# Altium schematic symbol library Cypress USB Controllers.SchLib: 169 symbols (part 10 of 15)
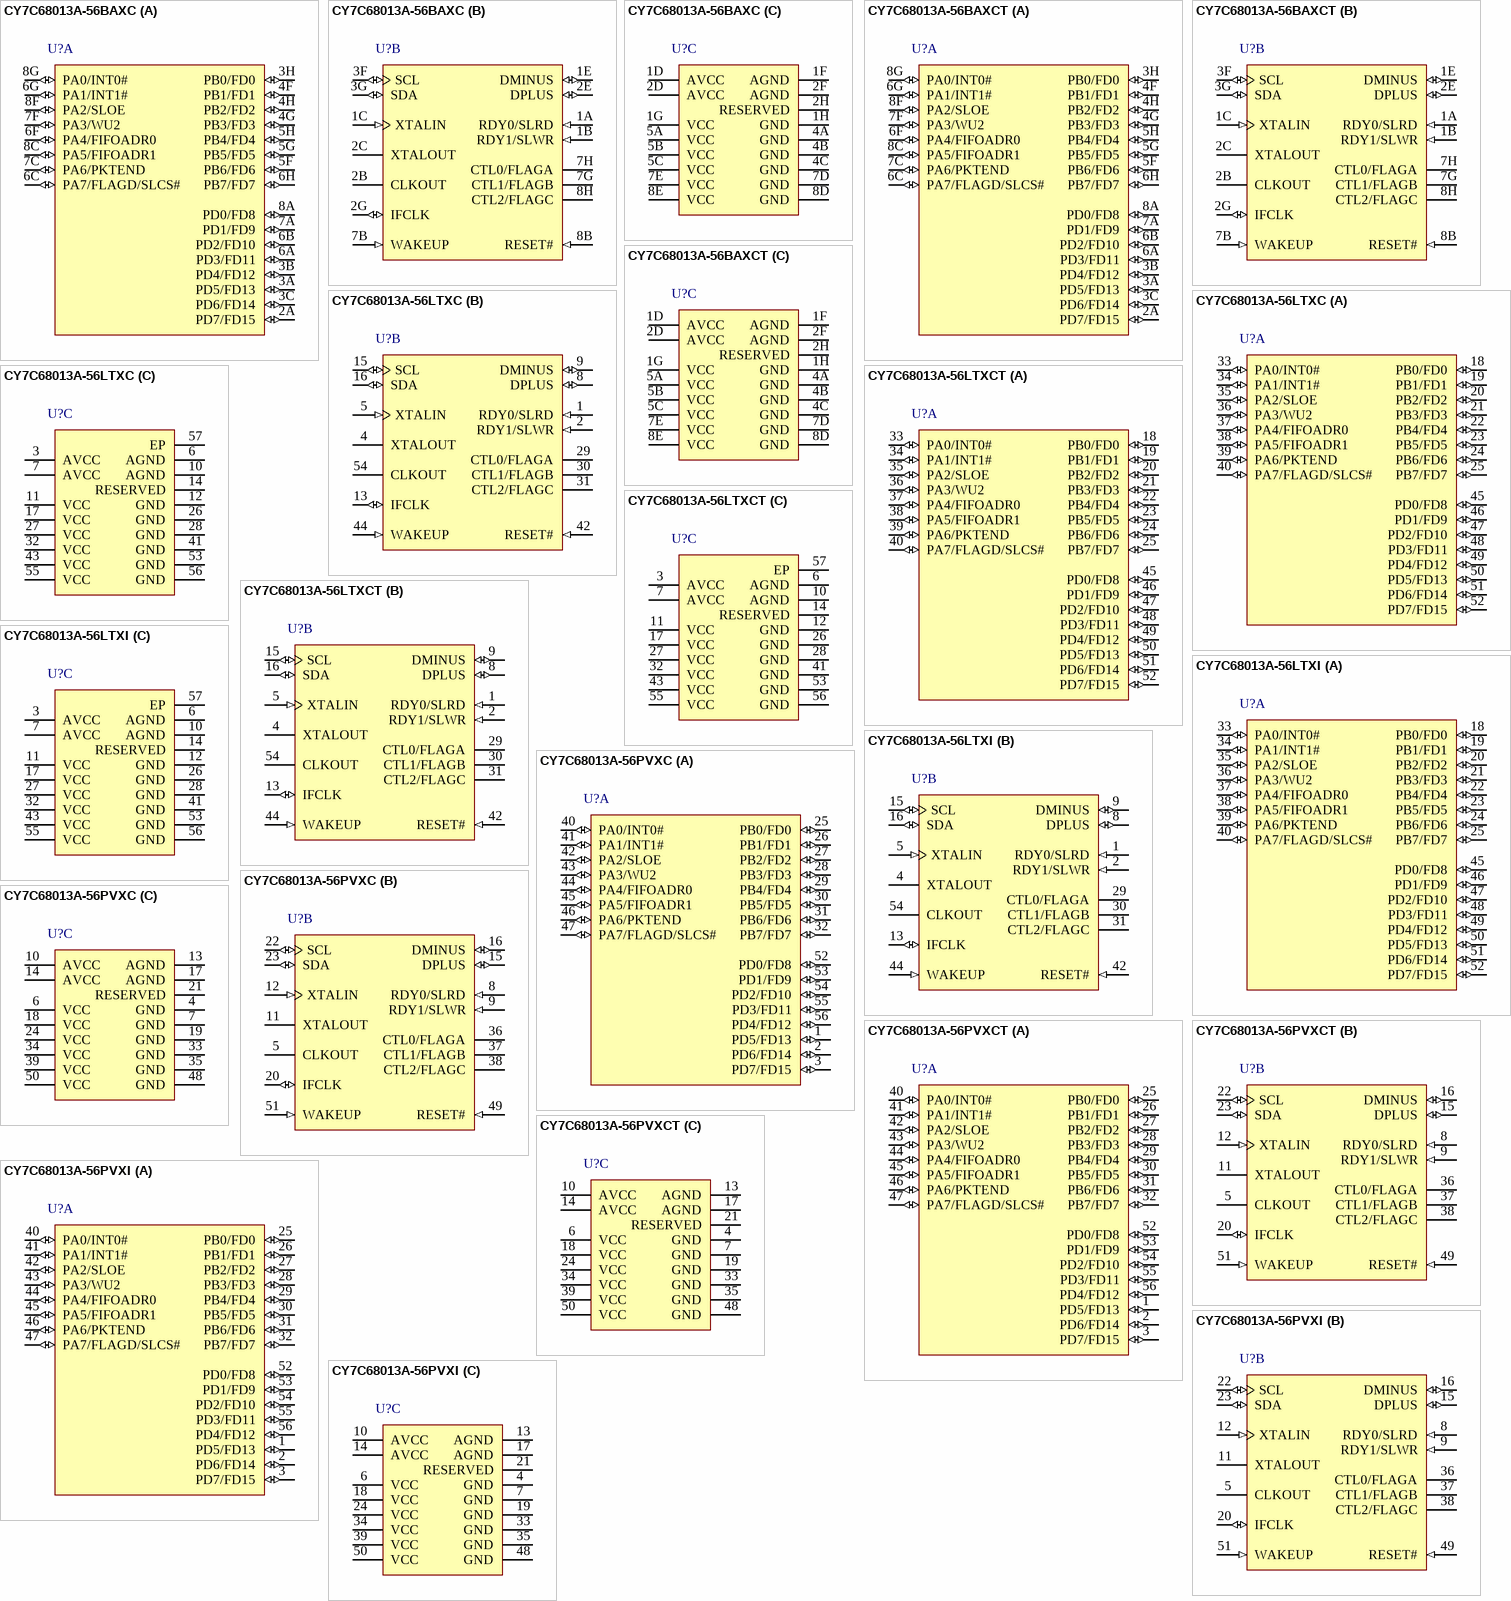
[diagram p31: symbols CY7C68013A-56BAXC to CY7C68013A-56PVXI]

## CY7C68013A-56PVXCT
designator U?
EZ-USB(R) FX2LP(TM) USB Microcontroller High-Speed USB Peripheral Controller, 16 KB, 24 I/Os, 3 to 3.6 V, 0 to 70 degC, 56-Pin SSOP (PVX56), Tape and Reel; Manufacturer: Cypress; PartNumber: CY7C68013A-56PVXCT; Max. Operating Voltage (V): 3.6; Memory Architecture: RAM; Memory Size (KB): 16; Min. Operating Voltage (V): 3; No. of I/Os: 24; Populated: Yes; DatasheetVersion: Rev. *W; PackageVersion: Rev. *F, 08/2012; PackageReference: PVX56; PackageDescription: 56-Pin Shrunk Small Outline Package, Body 7.506 x 18.415 mm, Pitch 0.635 mm; Supplier 1: Digi-Key; Supplier Part Number 1: CY7C68013A56PVXCT-ND; CPU Core: Enhanced 8051; Max. Operating Temp. (degreesC): 70; Min. Operating Temp. (degreesC): 0; Packing: Tape and Reel; RoHS: Pb-Free; Mounting Technology: Surface Mount; ComponentLink1Description: Manufacturer URL; ComponentLink1URL: http://www.cypress.com/; ComponentLink2Description: Datasheet; ComponentLink2URL: http://www.cypress.com/?docID=45142; ComponentLink3Description: Package Specification; ComponentLink3URL: http://www.cypress.com/?docID=39259
footprint CYP-PVX56_N (SOP, 56-Leads, Body 18.415x7.506mm, Pitch 0.635mm , IPC Medium Density)
footprint CYP-PVX56_L (SOP, 56-Leads, Body 18.415x7.506mm, Pitch 0.635mm, IPC High Density)
footprint CYP-PVX56_M (SOP, 56-Leads, Body 18.415x7.506mm, Pitch 0.635mm, IPC Low Density)
part A pins: 1 PD5/FD13 (io), 2 PD6/FD14 (io), 3 PD7/FD15 (io), 25 PB0/FD0 (io), 26 PB1/FD1 (io), 27 PB2/FD2 (io), 28 PB3/FD3 (io), 29 PB4/FD4 (io), 30 PB5/FD5 (io), 31 PB6/FD6 (io), 32 PB7/FD7 (io), 40 PA0/INT0# (io), 41 PA1/INT1# (io), 42 PA2/SLOE (io), 43 PA3/WU2 (io), 44 PA4/FIFOADR0 (io), 45 PA5/FIFOADR1 (io), 46 PA6/PKTEND (io), 47 PA7/FLAGD/SLCS# (io), 52 PD0/FD8 (io), 53 PD1/FD9 (io), 54 PD2/FD10 (io), 55 PD3/FD11 (io), 56 PD4/FD12 (io)
part B pins: 5 CLKOUT (hiz) "12-, 24- or 48 MHz clock, phase locked to the 24 MHz input clock. The 8051 defaults to 12 MHz operation. The 8051 may three-state this output by setting CPUCS.1 = 1.", 8 RDY0/SLRD (in), 9 RDY1/SLWR (in), 11 XTALOUT "Crystal Output. Connect this signal to a 24 MHz parallel-resonant, fundamental mode crystal and load capacitor to GND.If an external clock is used to drive XTALIN, leave this pin open.", 12 XTALIN (in) "Crystal Input. Connect this signal to a 24 MHz parallel-resonant, fundamental mode crystal and load capacitor to GND. It is also correct to drive XTALIN with an external 24-MHz square wave derived from another clock source. (See Datasheet)", 15 DPLUS (io) "USB D+ Signal. Connect to the USB D+ signal", 16 DMINUS (io) "USB D- Signal. Connect to the USB D- signal.", 20 IFCLK (io) "Interface Clock, used for synchronously clocking data into or out of the slave FIFOs. IFCLK also serves as a timing reference for all slave FIFO control signals and GPIF. When internal clocking is used (IFCONFIG.7 = 1) the (See Datasheet)", 22 SCL (io) "Clock for the I2C interface. Connect to VCC with a 2.2K resistor, even if no I2C peripheral is attached.", 23 SDA (io) "Data for I2C compatible interface. Connect to VCC with a 2.2K resistor, even if no I2C compatible peripheral is attached.", 36 CTL0/FLAGA (hiz), 37 CTL1/FLAGB (hiz), 38 CTL2/FLAGC (hiz), 49 RESET# (in) "Active LOW Reset. Resets the entire chip. See section 2.9 ¡±Reset and Wakeup¡± on page 8 for more details.", 51 WAKEUP (in) "USB Wakeup. If the 8051 is in suspend, asserting this pin starts up the oscillator and interrupts the 8051 to enable it to exit the suspend mode. Holding WAKEUP asserted inhibits the EZ-USBa chip from suspending. This pin(See Datasheet)"
part C pins: 4 GND (power) "Ground.", 6 VCC (power) "VCC. Connect to 3.3 V power source.", 7 GND (power) "Ground.", 10 AVCC (power) "Analog VCC. Connect this pin to 3.3V power source. This signal provides power to the analog section of the chip.", 13 AGND (power) "Analog Ground. Connect to ground with as short a path as possible.", 14 AVCC (power) "Analog VCC. Connect this pin to 3.3V power source. This signal provides power to the analog section of the chip.", 17 AGND (power) "Analog Ground. Connect to ground with as short a path as possible.", 18 VCC (power) "VCC. Connect to 3.3 V power source.", 19 GND (power) "Ground.", 21 RESERVED (power) "Reserved. Connect to ground.", 24 VCC (power) "VCC. Connect to 3.3 V power source.", 33 GND (power) "Ground.", 34 VCC (power) "VCC. Connect to 3.3 V power source.", 35 GND (power) "Ground.", 39 VCC (power) "VCC. Connect to 3.3 V power source.", 48 GND (power) "Ground.", 50 VCC (power) "VCC. Connect to 3.3 V power source."

## CY7C68013A-56PVXI
designator U?
EZ-USB(R) FX2LP(TM) USB Microcontroller High-Speed USB Peripheral Controller, 16 KB, 24 I/Os, 3 to 3.6 V, -40 to 85 degC, 56-Pin SSOP (PVX56), Tube; Manufacturer: Cypress; PartNumber: CY7C68013A-56PVXI; Max. Operating Voltage (V): 3.6; Memory Architecture: RAM; Memory Size (KB): 16; Min. Operating Voltage (V): 3; No. of I/Os: 24; Populated: Yes; DatasheetVersion: Rev. *W; PackageVersion: Rev. *F, 08/2012; PackageReference: PVX56; PackageDescription: 56-Pin Shrunk Small Outline Package, Body 7.506 x 18.415 mm, Pitch 0.635 mm; Supplier 1: Digi-Key; Supplier Part Number 1: 428-1944-5-ND; CPU Core: Enhanced 8051; Max. Operating Temp. (degreesC): 85; Min. Operating Temp. (degreesC): -40; Packing: Tube; RoHS: Pb-Free; Mounting Technology: Surface Mount; ComponentLink1Description: Manufacturer URL; ComponentLink1URL: http://www.cypress.com/; ComponentLink2Description: Datasheet; ComponentLink2URL: http://www.cypress.com/?docID=45142; ComponentLink3Description: Package Specification; ComponentLink3URL: http://www.cypress.com/?docID=39259
footprint CYP-PVX56_N (SOP, 56-Leads, Body 18.415x7.506mm, Pitch 0.635mm , IPC Medium Density)
footprint CYP-PVX56_L (SOP, 56-Leads, Body 18.415x7.506mm, Pitch 0.635mm, IPC High Density)
footprint CYP-PVX56_M (SOP, 56-Leads, Body 18.415x7.506mm, Pitch 0.635mm, IPC Low Density)
part A pins: 1 PD5/FD13 (io), 2 PD6/FD14 (io), 3 PD7/FD15 (io), 25 PB0/FD0 (io), 26 PB1/FD1 (io), 27 PB2/FD2 (io), 28 PB3/FD3 (io), 29 PB4/FD4 (io), 30 PB5/FD5 (io), 31 PB6/FD6 (io), 32 PB7/FD7 (io), 40 PA0/INT0# (io), 41 PA1/INT1# (io), 42 PA2/SLOE (io), 43 PA3/WU2 (io), 44 PA4/FIFOADR0 (io), 45 PA5/FIFOADR1 (io), 46 PA6/PKTEND (io), 47 PA7/FLAGD/SLCS# (io), 52 PD0/FD8 (io), 53 PD1/FD9 (io), 54 PD2/FD10 (io), 55 PD3/FD11 (io), 56 PD4/FD12 (io)
part B pins: 5 CLKOUT (hiz) "12-, 24- or 48 MHz clock, phase locked to the 24 MHz input clock. The 8051 defaults to 12 MHz operation. The 8051 may three-state this output by setting CPUCS.1 = 1.", 8 RDY0/SLRD (in), 9 RDY1/SLWR (in), 11 XTALOUT "Crystal Output. Connect this signal to a 24 MHz parallel-resonant, fundamental mode crystal and load capacitor to GND.If an external clock is used to drive XTALIN, leave this pin open.", 12 XTALIN (in) "Crystal Input. Connect this signal to a 24 MHz parallel-resonant, fundamental mode crystal and load capacitor to GND. It is also correct to drive XTALIN with an external 24-MHz square wave derived from another clock source. (See Datasheet)", 15 DPLUS (io) "USB D+ Signal. Connect to the USB D+ signal", 16 DMINUS (io) "USB D- Signal. Connect to the USB D- signal.", 20 IFCLK (io) "Interface Clock, used for synchronously clocking data into or out of the slave FIFOs. IFCLK also serves as a timing reference for all slave FIFO control signals and GPIF. When internal clocking is used (IFCONFIG.7 = 1) the (See Datasheet)", 22 SCL (io) "Clock for the I2C interface. Connect to VCC with a 2.2K resistor, even if no I2C peripheral is attached.", 23 SDA (io) "Data for I2C compatible interface. Connect to VCC with a 2.2K resistor, even if no I2C compatible peripheral is attached.", 36 CTL0/FLAGA (hiz), 37 CTL1/FLAGB (hiz), 38 CTL2/FLAGC (hiz), 49 RESET# (in) "Active LOW Reset. Resets the entire chip. See section 2.9 ¡±Reset and Wakeup¡± on page 8 for more details.", 51 WAKEUP (in) "USB Wakeup. If the 8051 is in suspend, asserting this pin starts up the oscillator and interrupts the 8051 to enable it to exit the suspend mode. Holding WAKEUP asserted inhibits the EZ-USBa chip from suspending. This pin(See Datasheet)"
part C pins: 4 GND (power) "Ground.", 6 VCC (power) "VCC. Connect to 3.3 V power source.", 7 GND (power) "Ground.", 10 AVCC (power) "Analog VCC. Connect this pin to 3.3V power source. This signal provides power to the analog section of the chip.", 13 AGND (power) "Analog Ground. Connect to ground with as short a path as possible.", 14 AVCC (power) "Analog VCC. Connect this pin to 3.3V power source. This signal provides power to the analog section of the chip.", 17 AGND (power) "Analog Ground. Connect to ground with as short a path as possible.", 18 VCC (power) "VCC. Connect to 3.3 V power source.", 19 GND (power) "Ground.", 21 RESERVED (power) "Reserved. Connect to ground.", 24 VCC (power) "VCC. Connect to 3.3 V power source.", 33 GND (power) "Ground.", 34 VCC (power) "VCC. Connect to 3.3 V power source.", 35 GND (power) "Ground.", 39 VCC (power) "VCC. Connect to 3.3 V power source.", 48 GND (power) "Ground.", 50 VCC (power) "VCC. Connect to 3.3 V power source."

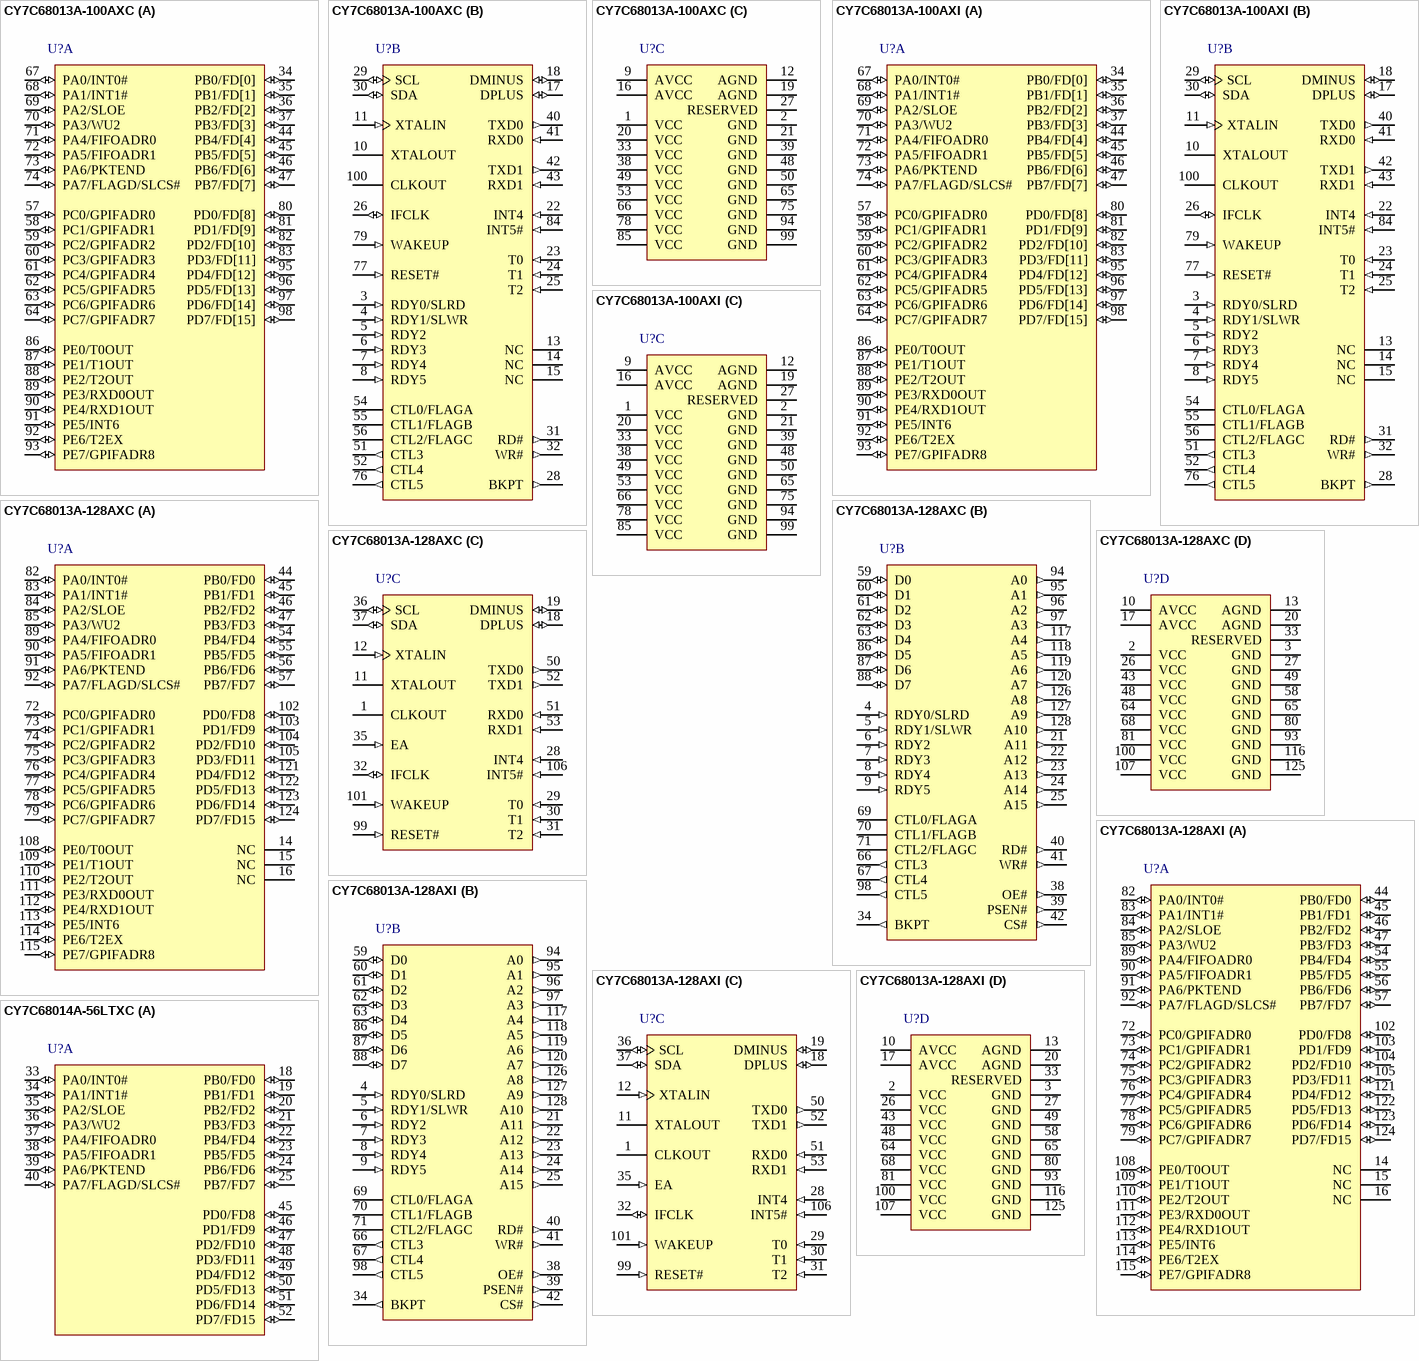
[diagram p10: symbols CY7C68013A-100AXC to CY7C68014A-56LTXC]

## CY7C68013A-100AXC
designator U?
EZ-USB(R) FX2LP(TM) USB Microcontroller High-Speed USB Peripheral Controller, 16 KB, 40 I/Os, 3 to 3.6 V, 0 to 70 degC, 100-Pin TQFP (AX100RA), Tray; Manufacturer: Cypress; PartNumber: CY7C68013A-100AXC; Max. Operating Voltage (V): 3.6; Memory Architecture: RAM; Memory Size (KB): 16; Min. Operating Voltage (V): 3; No. of I/Os: 40; Populated: Yes; DatasheetVersion: Rev. *W; PackageVersion: Rev. *E; PackageReference: AX100RA; PackageDescription: 100-Pin Thin Quad Flat Pack, Body 14 x 20 mm, Pitch 0.65 mm; Supplier 1: Digi-Key; Supplier Part Number 1: 428-1667-ND; CPU Core: Enhanced 8051; Max. Operating Temp. (degreesC): 70; Min. Operating Temp. (degreesC): 0; Packing: Tray; RoHS: Pb-Free; Mounting Technology: Surface Mount; Code_JEDEC: MS-026; ComponentLink1Description: Manufacturer URL; ComponentLink1URL: http://www.cypress.com/; ComponentLink2Description: Datasheet; ComponentLink2URL: http://www.cypress.com/?docID=45142; ComponentLink3Description: Package Specification; ComponentLink3URL: http://www.cypress.com/?docID=48215
footprint CYP-AX100RA_N (QFP, 100-Leads, Body 20x14mm, Pitch 0.65mm, IPC Medium Density)
footprint CYP-AX100RA_L (QFP, 100-Leads, Body 20x14mm, Pitch 0.65mm, IPC High Density)
footprint CYP-AX100RA_M (QFP, 100-Leads, Body 20x14mm, Pitch 0.65mm, IPC Low Density)
part A pins: 34 PB0/FD[0] (io), 35 PB1/FD[1] (io), 36 PB2/FD[2] (io), 37 PB3/FD[3] (io), 44 PB4/FD[4] (io), 45 PB5/FD[5] (io), 46 PB6/FD[6] (io), 47 PB7/FD[7] (io), 57 PC0/GPIFADR0 (io), 58 PC1/GPIFADR1 (io), 59 PC2/GPIFADR2 (io), 60 PC3/GPIFADR3 (io), 61 PC4/GPIFADR4 (io), 62 PC5/GPIFADR5 (io), 63 PC6/GPIFADR6 (io), 64 PC7/GPIFADR7 (io), 67 PA0/INT0# (io), 68 PA1/INT1# (io), 69 PA2/SLOE (io), 70 PA3/WU2 (io), 71 PA4/FIFOADR0 (io), 72 PA5/FIFOADR1 (io), 73 PA6/PKTEND (io), 74 PA7/FLAGD/SLCS# (io), 80 PD0/FD[8] (io), 81 PD1/FD[9] (io), 82 PD2/FD[10] (io), 83 PD3/FD[11] (io), 86 PE0/T0OUT (io), 87 PE1/T1OUT (io), 88 PE2/T2OUT (io), 89 PE3/RXD0OUT (io), 90 PE4/RXD1OUT (io), 91 PE5/INT6 (io), 92 PE6/T2EX (io), 93 PE7/GPIFADR8 (io), 95 PD4/FD[12] (io), 96 PD5/FD[13] (io), 97 PD6/FD[14] (io), 98 PD7/FD[15] (io)
part B pins: 3 RDY0/SLRD (in), 4 RDY1/SLWR (in), 5 RDY2 (in) "RDY2 is a GPIF input signal.", 6 RDY3 (in) "RDY3 is a GPIF input signal.", 7 RDY4 (in) "RDY4 is a GPIF input signal.", 8 RDY5 (in) "RDY5 is a GPIF input signal.", 10 XTALOUT "Crystal Output. Connect this signal to a 24 MHz parallel-resonant, fundamental mode crystal and load capacitor to GND. If an external clock is used to drive XTALIN, leave this pin open.", 11 XTALIN (in) "Crystal Input. Connect this signal to a 24 MHz parallel-resonant, fundamental mode crystal and load capacitor to GND. It is also correct to drive XTALIN with an external 24-MHz square wave derived from another clock source. (See Datasheet)", 13 NC "No Connect. This pin must be left open.", 14 NC "No Connect. This pin must be left open.", 15 NC "No Connect. This pin must be left open.", 17 DPLUS (io) "USB D+ Signal. Connect to the USB D+ signal.", 18 DMINUS (io) "USB D-Signal. Connect to the USB - signal.", 22 INT4 (in) "INT4 is the 8051 INT4 interrupt request input signal. The INT4 pin is edge-sensitive, active HIGH.", 23 T0 (in) "T0 is the active-HIGH T0 signal for 8051 Timer0, which provides the input to Timer0 when C/T0 is 1. When C/T0 is 0, Timer0 does not use this bit.", 24 T1 (in) "T1 is the active-HIGH T1 signal for 8051 Timer1, which provides the input to Timer1 when C/T1 is 1. When C/T1 is 0, Timer1 does not use this bit.", 25 T2 (in) "T2 is the active-HIGH T2 input signal to 8051 Timer2, which provides the input to Timer2 when C/T2 = 1. When C/T2 = 0, Timer2 does not use this pin.", 26 IFCLK (io) "Interface Clock, used for synchronously clocking data into/out of the slave FIFOs. IFCLK also serves as a timing reference for all slave FIFO control signals and GPIF. When internal clocking is used (IFCONFIG.7 = 1) the (See Datasheet)", 28 BKPT (out) "Breakpoint. This pin goes active (HIGH) when the 8051 address bus matches the BPADDRH/L registers and breakpoints are enabled in the BREAKPT register (BPEN = 1). If the BPPULSE bit in the BREAKPT register is HIGH, this (See Datasheet)", 29 SCL (io) "Clock for the I2C interface. Connect to VCC with a 2.2K resistor, even if no I2C peripheral is attached.", 30 SDA (io) "Data for I2C compatible interface. Connect to VCC with a 2.2K resistor, even if no I2C compatible peripheral is attached.", 31 RD# (out) "RD# is the active-LOW read strobe output for external memory.", 32 WR# (out) "WR# is the active-LOW write strobe output for external memory.", 40 TXD0 (out) "TXD0 is the active-HIGH TXD0 output from 8051 UART0, which provides the output clock in sync mode, and the output data in async mode.", 41 RXD0 (in) "RXD0 is the active-HIGH RXD0 input to 8051 UART0, which provides data to the UART in all modes.", 42 TXD1 (out) "TXD1is an active-HIGH output pin from 8051 UART1, which provides the output clock in sync mode, and the output data in async mode.", 43 RXD1 (in) "RXD1is an active-HIGH input signal for 8051 UART1, which provides data to the UART in all modes.", 51 CTL3 (out) "CTL3 is a GPIF control output.", 52 CTL4 (out) "CTL4 is a GPIF control output.", 54 CTL0/FLAGA (hiz), 55 CTL1/FLAGB (hiz), 56 CTL2/FLAGC (hiz), 76 CTL5 (out) "CTL5 is a GPIF control output.", 77 RESET# (in) "Active LOW Reset. Resets the entire chip. See section 2.9 ”Reset and Wakeup?on page 8 for more details.", 79 WAKEUP (in) "USB Wakeup. If the 8051 is in suspend, asserting this pin starts up the oscillator and interrupts the 8051 to enable it to exit the suspend mode. Holding WAKEUP asserted inhibits the EZ-USB? chip from suspending. This pi(See Datasheet)", 84 INT5# (in) "INT5# is the 8051 INT5 interrupt request input signal. The INT5 pin is edge-sensitive, active LOW.", 100 CLKOUT (hiz) "CLKOUT: 12-, 24-/48 MHz clock, phase locked to the 24 MHz input clock. The 8051 defaults to 12 MHz operation. The 8051 may three-state this output by setting CPUCS.1 = 1."
part C pins: 1 VCC (power) "VCC. Connect to 3.3 V power source.", 2 GND (power) "Ground.", 9 AVCC (power) "Analog VCC. Connect this pin to 3.3V power source. This signal provides power to the analog section of the chip.", 12 AGND (power) "Analog Ground. Connect to ground with as short a path as possible.", 16 AVCC (power) "Analog VCC. Connect this pin to 3.3V power source. This signal provides power to the analog section of the chip.", 19 AGND (power) "Analog Ground. Connect to ground with as short a path as possible.", 20 VCC (power) "VCC. Connect to 3.3 V power source.", 21 GND (power) "Ground.", 27 RESERVED (power) "Reserved. Connect to ground.", 33 VCC (power) "VCC. Connect to 3.3 V power source.", 38 VCC (power) "VCC. Connect to 3.3 V power source.", 39 GND (power) "Ground.", 48 GND (power) "Ground.", 49 VCC (power) "VCC. Connect to 3.3 V power source.", 50 GND (power) "Ground.", 53 VCC (power) "VCC. Connect to 3.3 V power source.", 65 GND (power) "Ground.", 66 VCC (power) "VCC. Connect to 3.3 V power source.", 75 GND (power) "Ground.", 78 VCC (power) "VCC. Connect to 3.3 V power source.", 85 VCC (power) "VCC. Connect to 3.3 V power source.", 94 GND (power) "Ground.", 99 GND (power) "Ground."

## CY7C68013A-100AXI
designator U?
EZ-USB(R) FX2LP(TM) USB Microcontroller High-Speed USB Peripheral Controller, 16 KB, 40 I/Os, 3 to 3.6 V, -40 to 85 degC, 100-Pin TQFP (AX100RA), Tray; Manufacturer: Cypress; PartNumber: CY7C68013A-100AXI; Max. Operating Voltage (V): 3.6; Memory Architecture: RAM; Memory Size (KB): 16; Min. Operating Voltage (V): 3; No. of I/Os: 40; Populated: Yes; DatasheetVersion: Rev. *W; PackageVersion: Rev. *E; PackageReference: AX100RA; PackageDescription: 100-Pin Thin Quad Flat Pack, Body 14 x 20 mm, Pitch 0.65 mm; Supplier 1: Digi-Key; Supplier Part Number 1: 428-2263-ND; CPU Core: Enhanced 8051; Max. Operating Temp. (degreesC): 85; Min. Operating Temp. (degreesC): -40; Packing: Tray; RoHS: Pb-Free; Mounting Technology: Surface Mount; Code_JEDEC: MS-026; ComponentLink1Description: Manufacturer URL; ComponentLink1URL: http://www.cypress.com/; ComponentLink2Description: Datasheet; ComponentLink2URL: http://www.cypress.com/?docID=45142; ComponentLink3Description: Package Specification; ComponentLink3URL: http://www.cypress.com/?docID=48215
footprint CYP-AX100RA_N (QFP, 100-Leads, Body 20x14mm, Pitch 0.65mm, IPC Medium Density)
footprint CYP-AX100RA_L (QFP, 100-Leads, Body 20x14mm, Pitch 0.65mm, IPC High Density)
footprint CYP-AX100RA_M (QFP, 100-Leads, Body 20x14mm, Pitch 0.65mm, IPC Low Density)
part A pins: 34 PB0/FD[0] (io), 35 PB1/FD[1] (io), 36 PB2/FD[2] (io), 37 PB3/FD[3] (io), 44 PB4/FD[4] (io), 45 PB5/FD[5] (io), 46 PB6/FD[6] (io), 47 PB7/FD[7] (io), 57 PC0/GPIFADR0 (io), 58 PC1/GPIFADR1 (io), 59 PC2/GPIFADR2 (io), 60 PC3/GPIFADR3 (io), 61 PC4/GPIFADR4 (io), 62 PC5/GPIFADR5 (io), 63 PC6/GPIFADR6 (io), 64 PC7/GPIFADR7 (io), 67 PA0/INT0# (io), 68 PA1/INT1# (io), 69 PA2/SLOE (io), 70 PA3/WU2 (io), 71 PA4/FIFOADR0 (io), 72 PA5/FIFOADR1 (io), 73 PA6/PKTEND (io), 74 PA7/FLAGD/SLCS# (io), 80 PD0/FD[8] (io), 81 PD1/FD[9] (io), 82 PD2/FD[10] (io), 83 PD3/FD[11] (io), 86 PE0/T0OUT (io), 87 PE1/T1OUT (io), 88 PE2/T2OUT (io), 89 PE3/RXD0OUT (io), 90 PE4/RXD1OUT (io), 91 PE5/INT6 (io), 92 PE6/T2EX (io), 93 PE7/GPIFADR8 (io), 95 PD4/FD[12] (io), 96 PD5/FD[13] (io), 97 PD6/FD[14] (io), 98 PD7/FD[15] (io)
part B pins: 3 RDY0/SLRD (in), 4 RDY1/SLWR (in), 5 RDY2 (in) "RDY2 is a GPIF input signal.", 6 RDY3 (in) "RDY3 is a GPIF input signal.", 7 RDY4 (in) "RDY4 is a GPIF input signal.", 8 RDY5 (in) "RDY5 is a GPIF input signal.", 10 XTALOUT "Crystal Output. Connect this signal to a 24 MHz parallel-resonant, fundamental mode crystal and load capacitor to GND. If an external clock is used to drive XTALIN, leave this pin open.", 11 XTALIN (in) "Crystal Input. Connect this signal to a 24 MHz parallel-resonant, fundamental mode crystal and load capacitor to GND. It is also correct to drive XTALIN with an external 24-MHz square wave derived from another clock source. (See Datasheet)", 13 NC "No Connect. This pin must be left open.", 14 NC "No Connect. This pin must be left open.", 15 NC "No Connect. This pin must be left open.", 17 DPLUS (io) "USB D+ Signal. Connect to the USB D+ signal.", 18 DMINUS (io) "USB D-Signal. Connect to the USB - signal.", 22 INT4 (in) "INT4 is the 8051 INT4 interrupt request input signal. The INT4 pin is edge-sensitive, active HIGH.", 23 T0 (in) "T0 is the active-HIGH T0 signal for 8051 Timer0, which provides the input to Timer0 when C/T0 is 1. When C/T0 is 0, Timer0 does not use this bit.", 24 T1 (in) "T1 is the active-HIGH T1 signal for 8051 Timer1, which provides the input to Timer1 when C/T1 is 1. When C/T1 is 0, Timer1 does not use this bit.", 25 T2 (in) "T2 is the active-HIGH T2 input signal to 8051 Timer2, which provides the input to Timer2 when C/T2 = 1. When C/T2 = 0, Timer2 does not use this pin.", 26 IFCLK (io) "Interface Clock, used for synchronously clocking data into/out of the slave FIFOs. IFCLK also serves as a timing reference for all slave FIFO control signals and GPIF. When internal clocking is used (IFCONFIG.7 = 1) the (See Datasheet)", 28 BKPT (out) "Breakpoint. This pin goes active (HIGH) when the 8051 address bus matches the BPADDRH/L registers and breakpoints are enabled in the BREAKPT register (BPEN = 1). If the BPPULSE bit in the BREAKPT register is HIGH, this (See Datasheet)", 29 SCL (io) "Clock for the I2C interface. Connect to VCC with a 2.2K resistor, even if no I2C peripheral is attached.", 30 SDA (io) "Data for I2C compatible interface. Connect to VCC with a 2.2K resistor, even if no I2C compatible peripheral is attached.", 31 RD# (out) "RD# is the active-LOW read strobe output for external memory.", 32 WR# (out) "WR# is the active-LOW write strobe output for external memory.", 40 TXD0 (out) "TXD0 is the active-HIGH TXD0 output from 8051 UART0, which provides the output clock in sync mode, and the output data in async mode.", 41 RXD0 (in) "RXD0 is the active-HIGH RXD0 input to 8051 UART0, which provides data to the UART in all modes.", 42 TXD1 (out) "TXD1is an active-HIGH output pin from 8051 UART1, which provides the output clock in sync mode, and the output data in async mode.", 43 RXD1 (in) "RXD1is an active-HIGH input signal for 8051 UART1, which provides data to the UART in all modes.", 51 CTL3 (out) "CTL3 is a GPIF control output.", 52 CTL4 (out) "CTL4 is a GPIF control output.", 54 CTL0/FLAGA (hiz), 55 CTL1/FLAGB (hiz), 56 CTL2/FLAGC (hiz), 76 CTL5 (out) "CTL5 is a GPIF control output.", 77 RESET# (in) "Active LOW Reset. Resets the entire chip. See section 2.9 ”Reset and Wakeup?on page 8 for more details.", 79 WAKEUP (in) "USB Wakeup. If the 8051 is in suspend, asserting this pin starts up the oscillator and interrupts the 8051 to enable it to exit the suspend mode. Holding WAKEUP asserted inhibits the EZ-USB? chip from suspending. This pi(See Datasheet)", 84 INT5# (in) "INT5# is the 8051 INT5 interrupt request input signal. The INT5 pin is edge-sensitive, active LOW.", 100 CLKOUT (hiz) "CLKOUT: 12-, 24-/48 MHz clock, phase locked to the 24 MHz input clock. The 8051 defaults to 12 MHz operation. The 8051 may three-state this output by setting CPUCS.1 = 1."
part C pins: 1 VCC (power) "VCC. Connect to 3.3 V power source.", 2 GND (power) "Ground.", 9 AVCC (power) "Analog VCC. Connect this pin to 3.3V power source. This signal provides power to the analog section of the chip.", 12 AGND (power) "Analog Ground. Connect to ground with as short a path as possible.", 16 AVCC (power) "Analog VCC. Connect this pin to 3.3V power source. This signal provides power to the analog section of the chip.", 19 AGND (power) "Analog Ground. Connect to ground with as short a path as possible.", 20 VCC (power) "VCC. Connect to 3.3 V power source.", 21 GND (power) "Ground.", 27 RESERVED (power) "Reserved. Connect to ground.", 33 VCC (power) "VCC. Connect to 3.3 V power source.", 38 VCC (power) "VCC. Connect to 3.3 V power source.", 39 GND (power) "Ground.", 48 GND (power) "Ground.", 49 VCC (power) "VCC. Connect to 3.3 V power source.", 50 GND (power) "Ground.", 53 VCC (power) "VCC. Connect to 3.3 V power source.", 65 GND (power) "Ground.", 66 VCC (power) "VCC. Connect to 3.3 V power source.", 75 GND (power) "Ground.", 78 VCC (power) "VCC. Connect to 3.3 V power source.", 85 VCC (power) "VCC. Connect to 3.3 V power source.", 94 GND (power) "Ground.", 99 GND (power) "Ground."

## CY7C68013A-128AXC
designator U?
EZ-USB(R) FX2LP(TM) USB Microcontroller High-Speed USB Peripheral Controller, 16 KB, 40 I/Os, 3 to 3.6 V, 0 to 70 degC, 128-Pin TQFP (AX128), Tray; Manufacturer: Cypress; PartNumber: CY7C68013A-128AXC; Max. Operating Voltage (V): 3.6; Memory Architecture: RAM; Memory Size (KB): 16; Min. Operating Voltage (V): 3; No. of I/Os: 40; Populated: Yes; DatasheetVersion: Rev. *W; PackageVersion: Rev. *F; PackageReference: AX128; PackageDescription: 128-Pin TQFP, Body 14 x 20 mm, Pitch 0.5 mm; Supplier 1: Digi-Key; Supplier Part Number 1: 428-1668-ND; CPU Core: Enhanced 8051; Max. Operating Temp. (degreesC): 70; Min. Operating Temp. (degreesC): 0; Packing: Tray; RoHS: Pb-Free; Mounting Technology: Surface Mount; Code_JEDEC: MS-026; ComponentLink1Description: Manufacturer URL; ComponentLink1URL: http://www.cypress.com/; ComponentLink2Description: Datasheet; ComponentLink2URL: http://www.cypress.com/?docID=45142; ComponentLink3Description: Package Specification; ComponentLink3URL: http://www.cypress.com/?docID=48215
footprint CYP-AX128_N (TQFP, 128-Leads, Body 20.1x14.1mm, Pitch 0.5mm, IPC Medium Density)
footprint CYP-AX128_L (TQFP, 128-Leads, Body 20.1x14.1mm, Pitch 0.5mm, IPC High Density)
footprint CYP-AX128_M (TQFP, 128-Leads, Body 20.1x14.1mm, Pitch 0.5mm, IPC Low Density)
part A pins: 14 NC "No Connect. This pin must be left open.", 15 NC "No Connect. This pin must be left open.", 16 NC "No Connect. This pin must be left open.", 44 PB0/FD0 (io), 45 PB1/FD1 (io), 46 PB2/FD2 (io), 47 PB3/FD3 (io), 54 PB4/FD4 (io), 55 PB5/FD5 (io), 56 PB6/FD6 (io), 57 PB7/FD7 (io), 72 PC0/GPIFADR0 (io), 73 PC1/GPIFADR1 (io), 74 PC2/GPIFADR2 (io), 75 PC3/GPIFADR3 (io), 76 PC4/GPIFADR4 (io), 77 PC5/GPIFADR5 (io), 78 PC6/GPIFADR6 (io), 79 PC7/GPIFADR7 (io), 82 PA0/INT0# (io), 83 PA1/INT1# (io), 84 PA2/SLOE (io), 85 PA3/WU2 (io), 89 PA4/FIFOADR0 (io), 90 PA5/FIFOADR1 (io), 91 PA6/PKTEND (io), 92 PA7/FLAGD/SLCS# (io), 102 PD0/FD8 (io), 103 PD1/FD9 (io), 104 PD2/FD10 (io), 105 PD3/FD11 (io), 108 PE0/T0OUT (io), 109 PE1/T1OUT (io), 110 PE2/T2OUT (io), 111 PE3/RXD0OUT (io), 112 PE4/RXD1OUT (io), 113 PE5/INT6 (io), 114 PE6/T2EX (io), 115 PE7/GPIFADR8 (io), 121 PD4/FD12 (io), 122 PD5/FD13 (io), 123 PD6/FD14 (io), 124 PD7/FD15 (io)
part B pins: 4 RDY0/SLRD (in), 5 RDY1/SLWR (in), 6 RDY2 (in) "RDY2 is a GPIF input signal.", 7 RDY3 (in) "RDY3 is a GPIF input signal.", 8 RDY4 (in) "RDY4 is a GPIF input signal.", 9 RDY5 (in) "RDY5 is a GPIF input signal.", 21 A11 (out) "8051 Address Bus. This bus is driven at all times. When the 8051 is addressing internal RAM it reflects the internal address.", 22 A12 (out) "8051 Address Bus. This bus is driven at all times. When the 8051 is addressing internal RAM it reflects the internal address.", 23 A13 (out) "8051 Address Bus. This bus is driven at all times. When the 8051 is addressing internal RAM it reflects the internal address.", 24 A14 (out) "8051 Address Bus. This bus is driven at all times. When the 8051 is addressing internal RAM it reflects the internal address.", 25 A15 (out) "8051 Address Bus. This bus is driven at all times. When the 8051 is addressing internal RAM it reflects the internal address.", 34 BKPT (out) "Breakpoint. This pin goes active (HIGH) when the 8051 address bus matches the BPADDRH/L registers and breakpoints are enabled in the BREAKPT register (BPEN = 1). If the BPPULSE bit in the BREAKPT register is HIGH, this (See Datasheet)", 38 OE# (out) "OE# is the active-LOW output enable for external memory.", 39 PSEN# (out) "Program Store Enable. This active-LOW signal indicates an 8051 code fetch from external memory. It is active for program memory fetches from 0x4000-0xFFFF when the EA pin is LOW, or from 0x0000-0xFFFF when the EA pin is HIGH.", 40 RD# (out) "RD# is the active-LOW read strobe output for external memory.", 41 WR# (out) "WR# is the active-LOW write strobe output for external memory.", 42 CS# (out) "CS# is the active-LOW chip select for external memory.", 59 D0 (io) "8051 Data Bus. This bidirectional bus is high impedance when inactive, input for bus reads, and output for bus writes. The data bus is used for external 8051 program and data memory. The data bus is active only for external (See Datasheet)", 60 D1 (io) "8051 Data Bus. This bidirectional bus is high impedance when inactive, input for bus reads, and output for bus writes. The data bus is used for external 8051 program and data memory. The data bus is active only for external (See Datasheet)", 61 D2 (io) "8051 Data Bus. This bidirectional bus is high impedance when inactive, input for bus reads, and output for bus writes. The data bus is used for external 8051 program and data memory. The data bus is active only for external (See Datasheet)", 62 D3 (io) "8051 Data Bus. This bidirectional bus is high impedance when inactive, input for bus reads, and output for bus writes. The data bus is used for external 8051 program and data memory. The data bus is active only for external (See Datasheet)", 63 D4 (io) "8051 Data Bus. This bidirectional bus is high impedance when inactive, input for bus reads, and output for bus writes. The data bus is used for external 8051 program and data memory. The data bus is active only for external (See Datasheet)", 66 CTL3 (out) "CTL3 is a GPIF control output.", 67 CTL4 (out) "CTL4 is a GPIF control output.", 69 CTL0/FLAGA (hiz), 70 CTL1/FLAGB (hiz), 71 CTL2/FLAGC (hiz), 86 D5 (io) "8051 Data Bus. This bidirectional bus is high impedance when inactive, input for bus reads, and output for bus writes. The data bus is used for external 8051 program and data memory. The data bus is active only for external (See Datasheet)", 87 D6 (io) "8051 Data Bus. This bidirectional bus is high impedance when inactive, input for bus reads, and output for bus writes. The data bus is used for external 8051 program and data memory. The data bus is active only for external (See Datasheet)", 88 D7 (io) "8051 Data Bus. This bidirectional bus is high impedance when inactive, input for bus reads, and output for bus writes. The data bus is used for external 8051 program and data memory. The data bus is active only for external (See Datasheet)", 94 A0 (out) "8051 Address Bus. This bus is driven at all times. When the 8051 is addressing internal RAM it reflects the internal address.", 95 A1 (out) "8051 Address Bus. This bus is driven at all times. When the 8051 is addressing internal RAM it reflects the internal address.", 96 A2 (out) "8051 Address Bus. This bus is driven at all times. When the 8051 is addressing internal RAM it reflects the internal address.", 97 A3 (out) "8051 Address Bus. This bus is driven at all times. When the 8051 is addressing internal RAM it reflects the internal address.", 98 CTL5 (out) "CTL3 is a GPIF control output.", 117 A4 (out) "8051 Address Bus. This bus is driven at all times. When the 8051 is addressing internal RAM it reflects the internal address.", 118 A5 (out) "8051 Address Bus. This bus is driven at all times. When the 8051 is addressing internal RAM it reflects the internal address.", 119 A6 (out) "8051 Address Bus. This bus is driven at all times. When the 8051 is addressing internal RAM it reflects the internal address.", 120 A7 (out) "8051 Address Bus. This bus is driven at all times. When the 8051 is addressing internal RAM it reflects the internal address.", 126 A8 (out) "8051 Address Bus. This bus is driven at all times. When the 8051 is addressing internal RAM it reflects the internal address.", 127 A9 (out) "8051 Address Bus. This bus is driven at all times. When the 8051 is addressing internal RAM it reflects the internal address.", 128 A10 (out) "8051 Address Bus. This bus is driven at all times. When the 8051 is addressing internal RAM it reflects the internal address."
part C pins: 1 CLKOUT (hiz) "CLKOUT: 12-, 24- or 48 MHz clock, phase locked to the 24 MHz input clock. The 8051 defaults to 12 MHz operation. The 8051 may three-state this output by setting CPUCS.1 = 1.", 11 XTALOUT "Crystal Output. Connect this signal to a 24 MHz parallel-resonant, fundamental mode crystal and load capacitor to GND. If an external clock is used to drive XTALIN, leave this pin open.", 12 XTALIN (in) "Crystal Input. Connect this signal to a 24 MHz parallel-resonant, fundamental mode crystal and load capacitor to GND. It is also correct to drive XTALIN with an external 24-MHz square wave derived from another clock source. (See Datasheet)", 18 DPLUS (io) "USB D+ Signal. Connect to the USB D+ signal.", 19 DMINUS (io) "USB D- Signal. Connect to the USB D- signal.", 28 INT4 (in) "INT4 is the 8051 INT4 interrupt request input signal. The INT4 pin is edge-sensitive, active HIGH.", 29 T0 (in) "T0 is the active-HIGH T0 signal for 8051 Timer0, which provides the input to Timer0 when C/T0 is 1. When C/T0 is 0, Timer0 does not use this bit.", 30 T1 (in) "T1 is the active-HIGH T1 signal for 8051 Timer1, which provides the input to Timer1 when C/T1 is 1. When C/T1 is 0, Timer1 does not use this bit.", 31 T2 (in) "T2 is the active-HIGH T2 input signal to 8051 Timer2, which provides the input to Timer2 when C/T2 = 1. When C/T2 = 0, Timer2 does not use this pin.", 32 IFCLK (io) "Interface Clock, used for synchronously clocking data into or out of the slave FIFOs. IFCLK also serves as a timing reference for all slave FIFO control signals and GPIF. When internal clocking is used (IFCONFIG.7 = 1) the (See Datasheet)", 35 EA (in) "External Access. This pin determines where the 8051 fetches code between addresses 0x0000 and 0x3FFF. If EA = 0 the 8051 fetches this code from its internal RAM. IF EA = 1 the 8051 fetches this code from external memory.s", 36 SCL (io) "Clock for the I2C interface. Connect to VCC with a 2.2K resistor, even if no I2C peripheral is attached.", 37 SDA (io) "Data for I2C compatible interface. Connect to VCC with a 2.2K resistor, even if no I2C compatible peripheral is attached.", 50 TXD0 (out) "TXD0 is the active-HIGH TXD0 output from 8051 UART0, which provides the output clock in sync mode, and the output data in async mode.", 51 RXD0 (in) "RXD0 is the active-HIGH RXD0 input to 8051 UART0, which provides data to the UART in all modes.", 52 TXD1 (out) "TXD1is an active-HIGH output pin from 8051 UART1, which provides the output clock in sync mode, and the output data in async mode.", 53 RXD1 (in) "RXD1is an active-HIGH input signal for 8051 UART1, which provides data to the UART in all modes.", 99 RESET# (in) "Active LOW Reset. Resets the entire chip. See section 2.9 ”Reset and Wakeup?on page 8 for more details.", 101 WAKEUP (in) "USB Wakeup. If the 8051 is in suspend, asserting this pin starts up the oscillator and interrupts the 8051 to enable it to exit the suspend mode. Holding WAKEUP asserted inhibits the EZ-USBa chip from suspending. This pin(See Datasheet)", 106 INT5# (in) "INT5# is the 8051 INT5 interrupt request input signal. The INT5 pin is edge-sensitive, active LOW."
part D pins: 2 VCC (power) "VCC. Connect to 3.3 V power source.", 3 GND (power) "Ground.", 10 AVCC (power) "Analog VCC. Connect this pin to 3.3V power source. This signal provides power to the analog section of the chip.", 13 AGND (power) "Analog Ground. Connect to ground with as short a path as possible.", 17 AVCC (power) "Analog VCC. Connect this pin to 3.3V power source. This signal provides power to the analog section of the chip.", 20 AGND (power) "Analog Ground. Connect to ground with as short a path as possible.", 26 VCC (power) "VCC. Connect to 3.3 V power source.", 27 GND (power) "Ground.", 33 RESERVED (power) "Reserved. Connect to ground.", 43 VCC (power) "VCC. Connect to 3.3 V power source.", 48 VCC (power) "VCC. Connect to 3.3 V power source.", 49 GND (power) "Ground.", 58 GND (power) "Ground.", 64 VCC (power) "VCC. Connect to 3.3 V power source.", 65 GND (power) "Ground.", 68 VCC (power) "VCC. Connect to 3.3 V power source.", 80 GND (power) "Ground.", 81 VCC (power) "VCC. Connect to 3.3 V power source.", 93 GND (power) "Ground.", 100 VCC (power) "VCC. Connect to 3.3 V power source.", 107 VCC (power) "VCC. Connect to 3.3 V power source.", 116 GND (power) "Ground.", 125 GND (power) "Ground."

## CY7C68013A-128AXI
designator U?
EZ-USB(R) FX2LP(TM) USB Microcontroller High-Speed USB Peripheral Controller, 16 KB, 40 I/Os, 3 to 3.6 V, -40 to 85 degC, 128-Pin TQFP (AX128), Tray; Manufacturer: Cypress; PartNumber: CY7C68013A-128AXI; Max. Operating Voltage (V): 3.6; Memory Architecture: RAM; Memory Size (KB): 16; Min. Operating Voltage (V): 3; No. of I/Os: 40; Populated: Yes; DatasheetVersion: Rev. *W; PackageVersion: Rev. *F; PackageReference: AX128; PackageDescription: 128-Pin TQFP, Body 14 x 20 mm, Pitch 0.5 mm; Supplier 1: Digi-Key; Supplier Part Number 1: 428-1943-ND; CPU Core: Enhanced 8051; Max. Operating Temp. (degreesC): 85; Min. Operating Temp. (degreesC): -40; Packing: Tray; RoHS: Pb-Free; Mounting Technology: Surface Mount; Code_JEDEC: MS-026; ComponentLink1Description: Manufacturer URL; ComponentLink1URL: http://www.cypress.com/; ComponentLink2Description: Datasheet; ComponentLink2URL: http://www.cypress.com/?docID=45142; ComponentLink3Description: Package Specification; ComponentLink3URL: http://www.cypress.com/?docID=48215
footprint CYP-AX128_N (TQFP, 128-Leads, Body 20.1x14.1mm, Pitch 0.5mm, IPC Medium Density)
footprint CYP-AX128_L (TQFP, 128-Leads, Body 20.1x14.1mm, Pitch 0.5mm, IPC High Density)
footprint CYP-AX128_M (TQFP, 128-Leads, Body 20.1x14.1mm, Pitch 0.5mm, IPC Low Density)
part A pins: 14 NC "No Connect. This pin must be left open.", 15 NC "No Connect. This pin must be left open.", 16 NC "No Connect. This pin must be left open.", 44 PB0/FD0 (io), 45 PB1/FD1 (io), 46 PB2/FD2 (io), 47 PB3/FD3 (io), 54 PB4/FD4 (io), 55 PB5/FD5 (io), 56 PB6/FD6 (io), 57 PB7/FD7 (io), 72 PC0/GPIFADR0 (io), 73 PC1/GPIFADR1 (io), 74 PC2/GPIFADR2 (io), 75 PC3/GPIFADR3 (io), 76 PC4/GPIFADR4 (io), 77 PC5/GPIFADR5 (io), 78 PC6/GPIFADR6 (io), 79 PC7/GPIFADR7 (io), 82 PA0/INT0# (io), 83 PA1/INT1# (io), 84 PA2/SLOE (io), 85 PA3/WU2 (io), 89 PA4/FIFOADR0 (io), 90 PA5/FIFOADR1 (io), 91 PA6/PKTEND (io), 92 PA7/FLAGD/SLCS# (io), 102 PD0/FD8 (io), 103 PD1/FD9 (io), 104 PD2/FD10 (io), 105 PD3/FD11 (io), 108 PE0/T0OUT (io), 109 PE1/T1OUT (io), 110 PE2/T2OUT (io), 111 PE3/RXD0OUT (io), 112 PE4/RXD1OUT (io), 113 PE5/INT6 (io), 114 PE6/T2EX (io), 115 PE7/GPIFADR8 (io), 121 PD4/FD12 (io), 122 PD5/FD13 (io), 123 PD6/FD14 (io), 124 PD7/FD15 (io)
part B pins: 4 RDY0/SLRD (in), 5 RDY1/SLWR (in), 6 RDY2 (in) "RDY2 is a GPIF input signal.", 7 RDY3 (in) "RDY3 is a GPIF input signal.", 8 RDY4 (in) "RDY4 is a GPIF input signal.", 9 RDY5 (in) "RDY5 is a GPIF input signal.", 21 A11 (out) "8051 Address Bus. This bus is driven at all times. When the 8051 is addressing internal RAM it reflects the internal address.", 22 A12 (out) "8051 Address Bus. This bus is driven at all times. When the 8051 is addressing internal RAM it reflects the internal address.", 23 A13 (out) "8051 Address Bus. This bus is driven at all times. When the 8051 is addressing internal RAM it reflects the internal address.", 24 A14 (out) "8051 Address Bus. This bus is driven at all times. When the 8051 is addressing internal RAM it reflects the internal address.", 25 A15 (out) "8051 Address Bus. This bus is driven at all times. When the 8051 is addressing internal RAM it reflects the internal address.", 34 BKPT (out) "Breakpoint. This pin goes active (HIGH) when the 8051 address bus matches the BPADDRH/L registers and breakpoints are enabled in the BREAKPT register (BPEN = 1). If the BPPULSE bit in the BREAKPT register is HIGH, this (See Datasheet)", 38 OE# (out) "OE# is the active-LOW output enable for external memory.", 39 PSEN# (out) "Program Store Enable. This active-LOW signal indicates an 8051 code fetch from external memory. It is active for program memory fetches from 0x4000-0xFFFF when the EA pin is LOW, or from 0x0000-0xFFFF when the EA pin is HIGH.", 40 RD# (out) "RD# is the active-LOW read strobe output for external memory.", 41 WR# (out) "WR# is the active-LOW write strobe output for external memory.", 42 CS# (out) "CS# is the active-LOW chip select for external memory.", 59 D0 (io) "8051 Data Bus. This bidirectional bus is high impedance when inactive, input for bus reads, and output for bus writes. The data bus is used for external 8051 program and data memory. The data bus is active only for external (See Datasheet)", 60 D1 (io) "8051 Data Bus. This bidirectional bus is high impedance when inactive, input for bus reads, and output for bus writes. The data bus is used for external 8051 program and data memory. The data bus is active only for external (See Datasheet)", 61 D2 (io) "8051 Data Bus. This bidirectional bus is high impedance when inactive, input for bus reads, and output for bus writes. The data bus is used for external 8051 program and data memory. The data bus is active only for external (See Datasheet)", 62 D3 (io) "8051 Data Bus. This bidirectional bus is high impedance when inactive, input for bus reads, and output for bus writes. The data bus is used for external 8051 program and data memory. The data bus is active only for external (See Datasheet)", 63 D4 (io) "8051 Data Bus. This bidirectional bus is high impedance when inactive, input for bus reads, and output for bus writes. The data bus is used for external 8051 program and data memory. The data bus is active only for external (See Datasheet)", 66 CTL3 (out) "CTL3 is a GPIF control output.", 67 CTL4 (out) "CTL4 is a GPIF control output.", 69 CTL0/FLAGA (hiz), 70 CTL1/FLAGB (hiz), 71 CTL2/FLAGC (hiz), 86 D5 (io) "8051 Data Bus. This bidirectional bus is high impedance when inactive, input for bus reads, and output for bus writes. The data bus is used for external 8051 program and data memory. The data bus is active only for external (See Datasheet)", 87 D6 (io) "8051 Data Bus. This bidirectional bus is high impedance when inactive, input for bus reads, and output for bus writes. The data bus is used for external 8051 program and data memory. The data bus is active only for external (See Datasheet)", 88 D7 (io) "8051 Data Bus. This bidirectional bus is high impedance when inactive, input for bus reads, and output for bus writes. The data bus is used for external 8051 program and data memory. The data bus is active only for external (See Datasheet)", 94 A0 (out) "8051 Address Bus. This bus is driven at all times. When the 8051 is addressing internal RAM it reflects the internal address.", 95 A1 (out) "8051 Address Bus. This bus is driven at all times. When the 8051 is addressing internal RAM it reflects the internal address.", 96 A2 (out) "8051 Address Bus. This bus is driven at all times. When the 8051 is addressing internal RAM it reflects the internal address.", 97 A3 (out) "8051 Address Bus. This bus is driven at all times. When the 8051 is addressing internal RAM it reflects the internal address.", 98 CTL5 (out) "CTL3 is a GPIF control output.", 117 A4 (out) "8051 Address Bus. This bus is driven at all times. When the 8051 is addressing internal RAM it reflects the internal address.", 118 A5 (out) "8051 Address Bus. This bus is driven at all times. When the 8051 is addressing internal RAM it reflects the internal address.", 119 A6 (out) "8051 Address Bus. This bus is driven at all times. When the 8051 is addressing internal RAM it reflects the internal address.", 120 A7 (out) "8051 Address Bus. This bus is driven at all times. When the 8051 is addressing internal RAM it reflects the internal address.", 126 A8 (out) "8051 Address Bus. This bus is driven at all times. When the 8051 is addressing internal RAM it reflects the internal address.", 127 A9 (out) "8051 Address Bus. This bus is driven at all times. When the 8051 is addressing internal RAM it reflects the internal address.", 128 A10 (out) "8051 Address Bus. This bus is driven at all times. When the 8051 is addressing internal RAM it reflects the internal address."
part C pins: 1 CLKOUT (hiz) "CLKOUT: 12-, 24- or 48 MHz clock, phase locked to the 24 MHz input clock. The 8051 defaults to 12 MHz operation. The 8051 may three-state this output by setting CPUCS.1 = 1.", 11 XTALOUT "Crystal Output. Connect this signal to a 24 MHz parallel-resonant, fundamental mode crystal and load capacitor to GND. If an external clock is used to drive XTALIN, leave this pin open.", 12 XTALIN (in) "Crystal Input. Connect this signal to a 24 MHz parallel-resonant, fundamental mode crystal and load capacitor to GND. It is also correct to drive XTALIN with an external 24-MHz square wave derived from another clock source. (See Datasheet)", 18 DPLUS (io) "USB D+ Signal. Connect to the USB D+ signal.", 19 DMINUS (io) "USB D- Signal. Connect to the USB D- signal.", 28 INT4 (in) "INT4 is the 8051 INT4 interrupt request input signal. The INT4 pin is edge-sensitive, active HIGH.", 29 T0 (in) "T0 is the active-HIGH T0 signal for 8051 Timer0, which provides the input to Timer0 when C/T0 is 1. When C/T0 is 0, Timer0 does not use this bit.", 30 T1 (in) "T1 is the active-HIGH T1 signal for 8051 Timer1, which provides the input to Timer1 when C/T1 is 1. When C/T1 is 0, Timer1 does not use this bit.", 31 T2 (in) "T2 is the active-HIGH T2 input signal to 8051 Timer2, which provides the input to Timer2 when C/T2 = 1. When C/T2 = 0, Timer2 does not use this pin.", 32 IFCLK (io) "Interface Clock, used for synchronously clocking data into or out of the slave FIFOs. IFCLK also serves as a timing reference for all slave FIFO control signals and GPIF. When internal clocking is used (IFCONFIG.7 = 1) the (See Datasheet)", 35 EA (in) "External Access. This pin determines where the 8051 fetches code between addresses 0x0000 and 0x3FFF. If EA = 0 the 8051 fetches this code from its internal RAM. IF EA = 1 the 8051 fetches this code from external memory.s", 36 SCL (io) "Clock for the I2C interface. Connect to VCC with a 2.2K resistor, even if no I2C peripheral is attached.", 37 SDA (io) "Data for I2C compatible interface. Connect to VCC with a 2.2K resistor, even if no I2C compatible peripheral is attached.", 50 TXD0 (out) "TXD0 is the active-HIGH TXD0 output from 8051 UART0, which provides the output clock in sync mode, and the output data in async mode.", 51 RXD0 (in) "RXD0 is the active-HIGH RXD0 input to 8051 UART0, which provides data to the UART in all modes.", 52 TXD1 (out) "TXD1is an active-HIGH output pin from 8051 UART1, which provides the output clock in sync mode, and the output data in async mode.", 53 RXD1 (in) "RXD1is an active-HIGH input signal for 8051 UART1, which provides data to the UART in all modes.", 99 RESET# (in) "Active LOW Reset. Resets the entire chip. See section 2.9 ”Reset and Wakeup?on page 8 for more details.", 101 WAKEUP (in) "USB Wakeup. If the 8051 is in suspend, asserting this pin starts up the oscillator and interrupts the 8051 to enable it to exit the suspend mode. Holding WAKEUP asserted inhibits the EZ-USBa chip from suspending. This pin(See Datasheet)", 106 INT5# (in) "INT5# is the 8051 INT5 interrupt request input signal. The INT5 pin is edge-sensitive, active LOW."
part D pins: 2 VCC (power) "VCC. Connect to 3.3 V power source.", 3 GND (power) "Ground.", 10 AVCC (power) "Analog VCC. Connect this pin to 3.3V power source. This signal provides power to the analog section of the chip.", 13 AGND (power) "Analog Ground. Connect to ground with as short a path as possible.", 17 AVCC (power) "Analog VCC. Connect this pin to 3.3V power source. This signal provides power to the analog section of the chip.", 20 AGND (power) "Analog Ground. Connect to ground with as short a path as possible.", 26 VCC (power) "VCC. Connect to 3.3 V power source.", 27 GND (power) "Ground.", 33 RESERVED (power) "Reserved. Connect to ground.", 43 VCC (power) "VCC. Connect to 3.3 V power source.", 48 VCC (power) "VCC. Connect to 3.3 V power source.", 49 GND (power) "Ground.", 58 GND (power) "Ground.", 64 VCC (power) "VCC. Connect to 3.3 V power source.", 65 GND (power) "Ground.", 68 VCC (power) "VCC. Connect to 3.3 V power source.", 80 GND (power) "Ground.", 81 VCC (power) "VCC. Connect to 3.3 V power source.", 93 GND (power) "Ground.", 100 VCC (power) "VCC. Connect to 3.3 V power source.", 107 VCC (power) "VCC. Connect to 3.3 V power source.", 116 GND (power) "Ground.", 125 GND (power) "Ground."

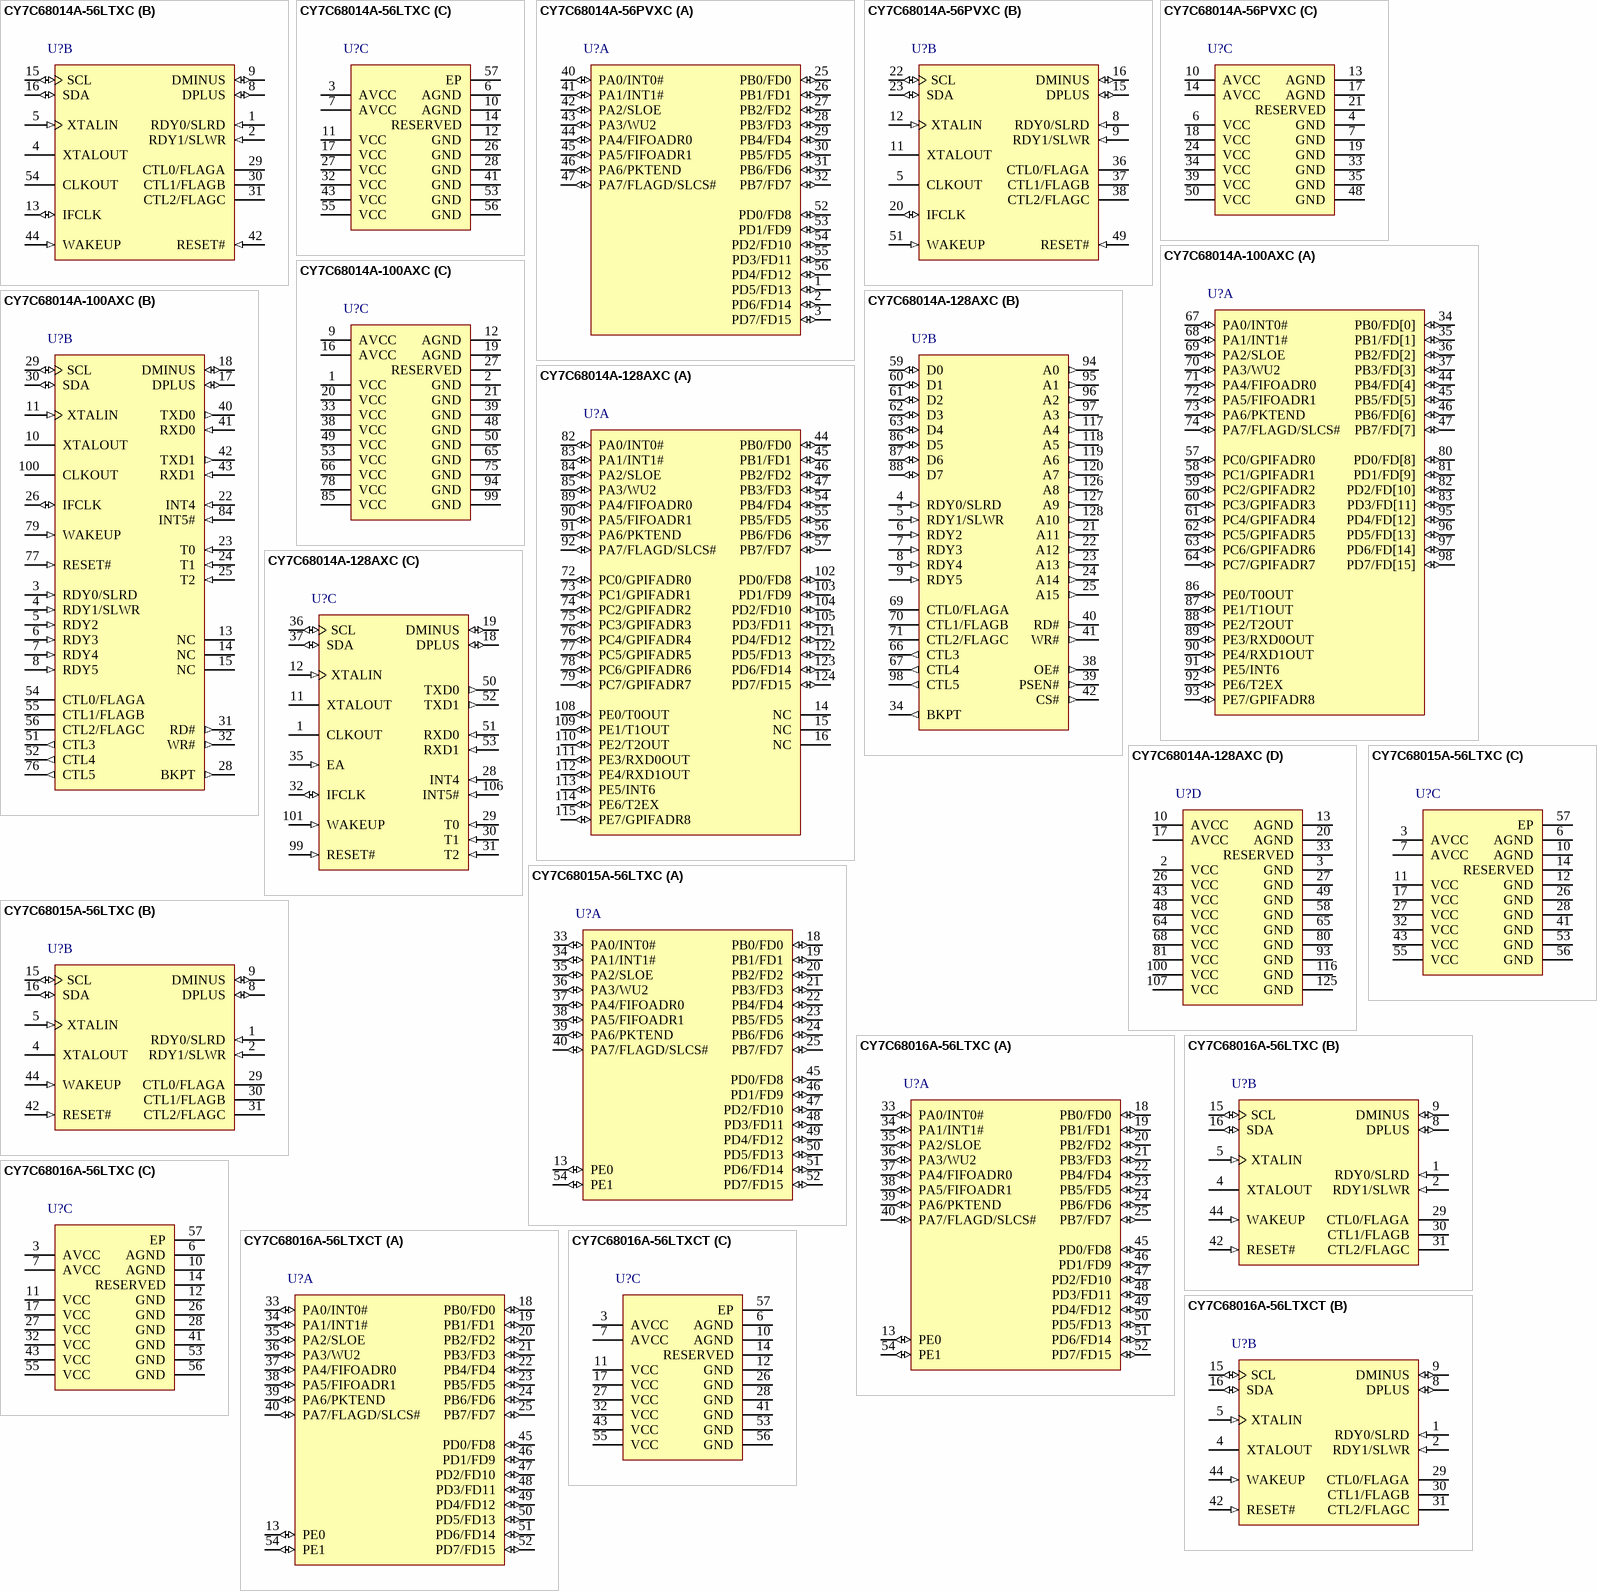
[diagram p11: symbols CY7C68014A-56LTXC to CY7C68016A-56LTXCT]